# Altium footprint library SOIC127P600X175-8N.PcbLib: 1 footprints
Each footprint in its own frame and in the unit in brackets; x right, y up, seen from the top. Pads: shape width x height; smd on the part's side, far side on the other; paste and mask are expansions set on the pad; w line width, h text height; cw(c..) or ccw(c..) is an arc to the next point about the centre after c.
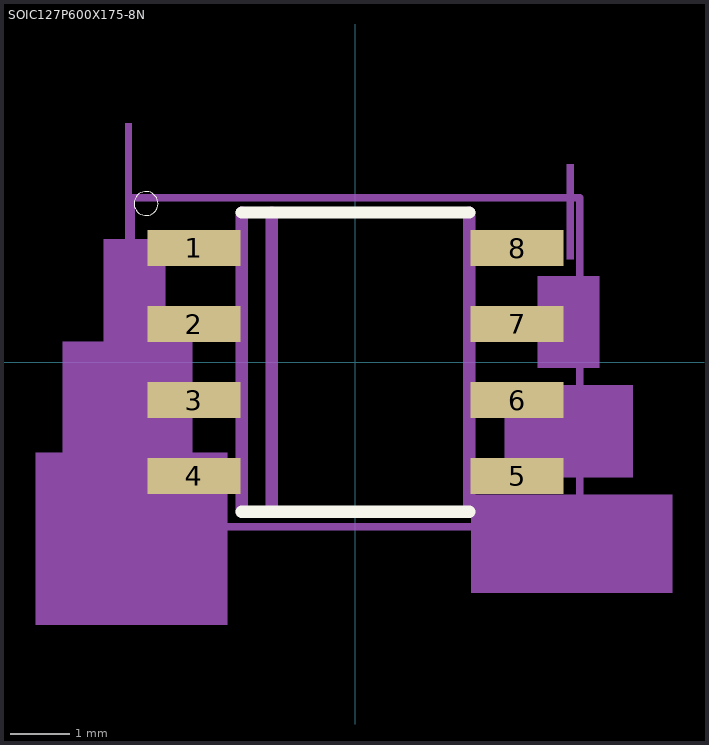
[diagram p0: the footprint, top view; thin cyan lines are the x and y axes]

## SOIC127P600X175-8N [mm]
pads (8):
  rect 1.55x0.6 smd: 1(-2.7,1.905) 2(-2.7,0.635) 3(-2.7,-0.635) 4(-2.7,-1.905) 5(2.7,-1.905) 6(2.7,-0.635) 7(2.7,0.635) 8(2.7,1.905)
Top Overlay:
  circle w0: c-3.5,2.65 r0.2
  lines w0.203: -1.9,-2.5 1.9,-2.5 ; -1.9,2.5 1.9,2.5
Mechanical 4:
  region: -3.845,3.995 -3.845,1.02 -3.74,1.02 -3.74,3.995
  region: -3.176,2.056 -3.176,-0.716 -4.206,-0.716 -4.206,2.056
  region: -2.727,0.337 -2.727,-2.676 -4.896,-2.676 -4.896,0.337
  region: -2.145,-1.515 -2.145,-4.393 -5.343,-4.393 -5.343,-1.515
  region: 5.293,-3.853 5.293,-2.219 1.931,-2.219 1.931,-3.853
  region: 4.633,-1.923 4.633,-0.388 2.492,-0.388 2.492,-1.923
  region: 4.073,-0.093 4.073,1.437 3.047,1.437 3.047,-0.093
  region: 3.528,1.722 3.528,3.309 3.649,3.309 3.649,1.722
  region: -3.845,3.995 -3.845,1.02 -3.74,1.02 -3.74,3.995
  region: -3.176,2.056 -3.176,-0.716 -4.206,-0.716 -4.206,2.056
  region: -2.727,0.337 -2.727,-2.676 -4.896,-2.676 -4.896,0.337
  region: -2.145,-1.515 -2.145,-4.393 -5.343,-4.393 -5.343,-1.515
  region: 5.293,-3.853 5.293,-2.219 1.931,-2.219 1.931,-3.853
  region: 4.633,-1.923 4.633,-0.388 2.492,-0.388 2.492,-1.923
  region: 4.073,-0.093 4.073,1.437 3.047,1.437 3.047,-0.093
  region: 3.528,1.722 3.528,3.309 3.649,3.309 3.649,1.722
  lines w0.203: -1.9,-2.5 -1.9,2.5 -1.9,-2.5 ; -1.4,-2.5 -1.4,2.5 -1.4,-2.5 ; 1.9,-2.5 1.9,2.5 1.9,-2.5
Mechanical 16:
  lines w0.127: -3.75,-2.75 3.75,-2.75 3.75,2.75 -3.75,2.75 -3.75,-2.75